# Altium integrated library DM3CS-SF.IntLib: 1 symbol
Pins are listed as number, name and electrical type; pins without a type are passive.

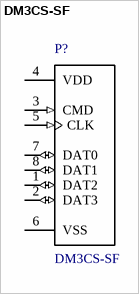
[diagram p0: symbol DM3CS-SF]

## DM3CS-SF
designator P?
Conn Micro SD Card HDR 8 POS 1.1mm Solder RA SMD Embossed T/R 0.5A; MF: Hirose; MP: DM3CS-SF; SnapEDA_Link: https://www.snapeda.com/parts/DM3CS-SF/Hirose%20Electric%20Co%20Ltd/view-part/?ref=snap; Availability: Good; Package: None; Price: 1.08 USD; Value: *
footprint HRS_DM3CS-SF
pins: 1 DAT2 (io), 2 DAT3 (io), 3 CMD (in), 4 VDD (power), 5 CLK (in), 6 VSS, 7 DAT0 (io), 8 DAT1 (io)